# Altium schematic symbol library EGS002.SchLib: 1 symbol
Pins are listed as number, name and electrical type; pins without a type are passive.

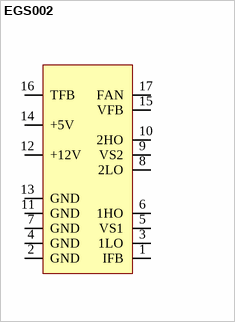
[diagram p0: symbol EGS002]

## EGS002
designator U?
EGS002  PWM
footprint EGS002
pins: 1 IFB, 2 GND, 3 1LO, 4 GND, 5 VS1, 6 1HO, 7 GND, 8 2LO, 9 VS2, 10 2HO, 11 GND, 12 +12V, 13 GND, 14 +5V, 15 VFB, 16 TFB, 17 FAN